# EAGLE library part CP2102N-A01-GQFN20 (library Silicon Labs)
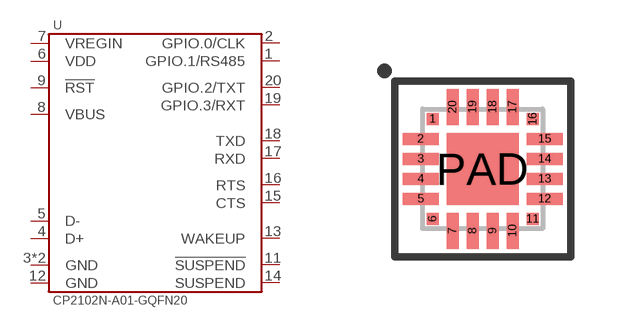
[diagram p4: symbol with the pads of QFN-20-3X3; footprint QFN-20-3X3]

Designator prefix U

## CP2102N-A01-GQFN20  [QFN-20-3X3]
1  GPIO.1/RS485
2  GPIO.0/CLK
3  GND
4  D+
5  D-
6  VDD
7  VREGIN
8  VBUS
9  !RST
11  !SUSPEND
12  GND
13  WAKEUP
14  SUSPEND
15  CTS
16  RTS
17  RXD
18  TXD
19  GPIO.3/RXT
20  GPIO.2/TXT
PAD  GND

## Footprint QFN-20-3X3 (pad centres in mm)
smd 0.3 x 0.3: 1 -1.25,1.25; 6 -1.25,-1.25; 11 1.25,-1.25; 16 1.25,1.25
smd 0.9 x 0.3: 2 -1.55,0.75; 3 -1.55,0.25; 4 -1.55,-0.25; 5 -1.55,-0.75; 12 1.55,-0.75; 13 1.55,-0.25; 14 1.55,0.25; 15 1.55,0.75
smd 0.3 x 0.9: 7 -0.75,-1.55; 8 -0.25,-1.55; 9 0.25,-1.55; 10 0.75,-1.55; 17 0.75,1.55; 18 0.25,1.55; 19 -0.25,1.55; 20 -0.75,1.55
smd 1.8 x 1.8: PAD 0,0